# Altium schematic symbol library node.SchLib: 51 symbols (part 1 of 2)
Pins are listed as number, name and electrical type; pins without a type are passive.

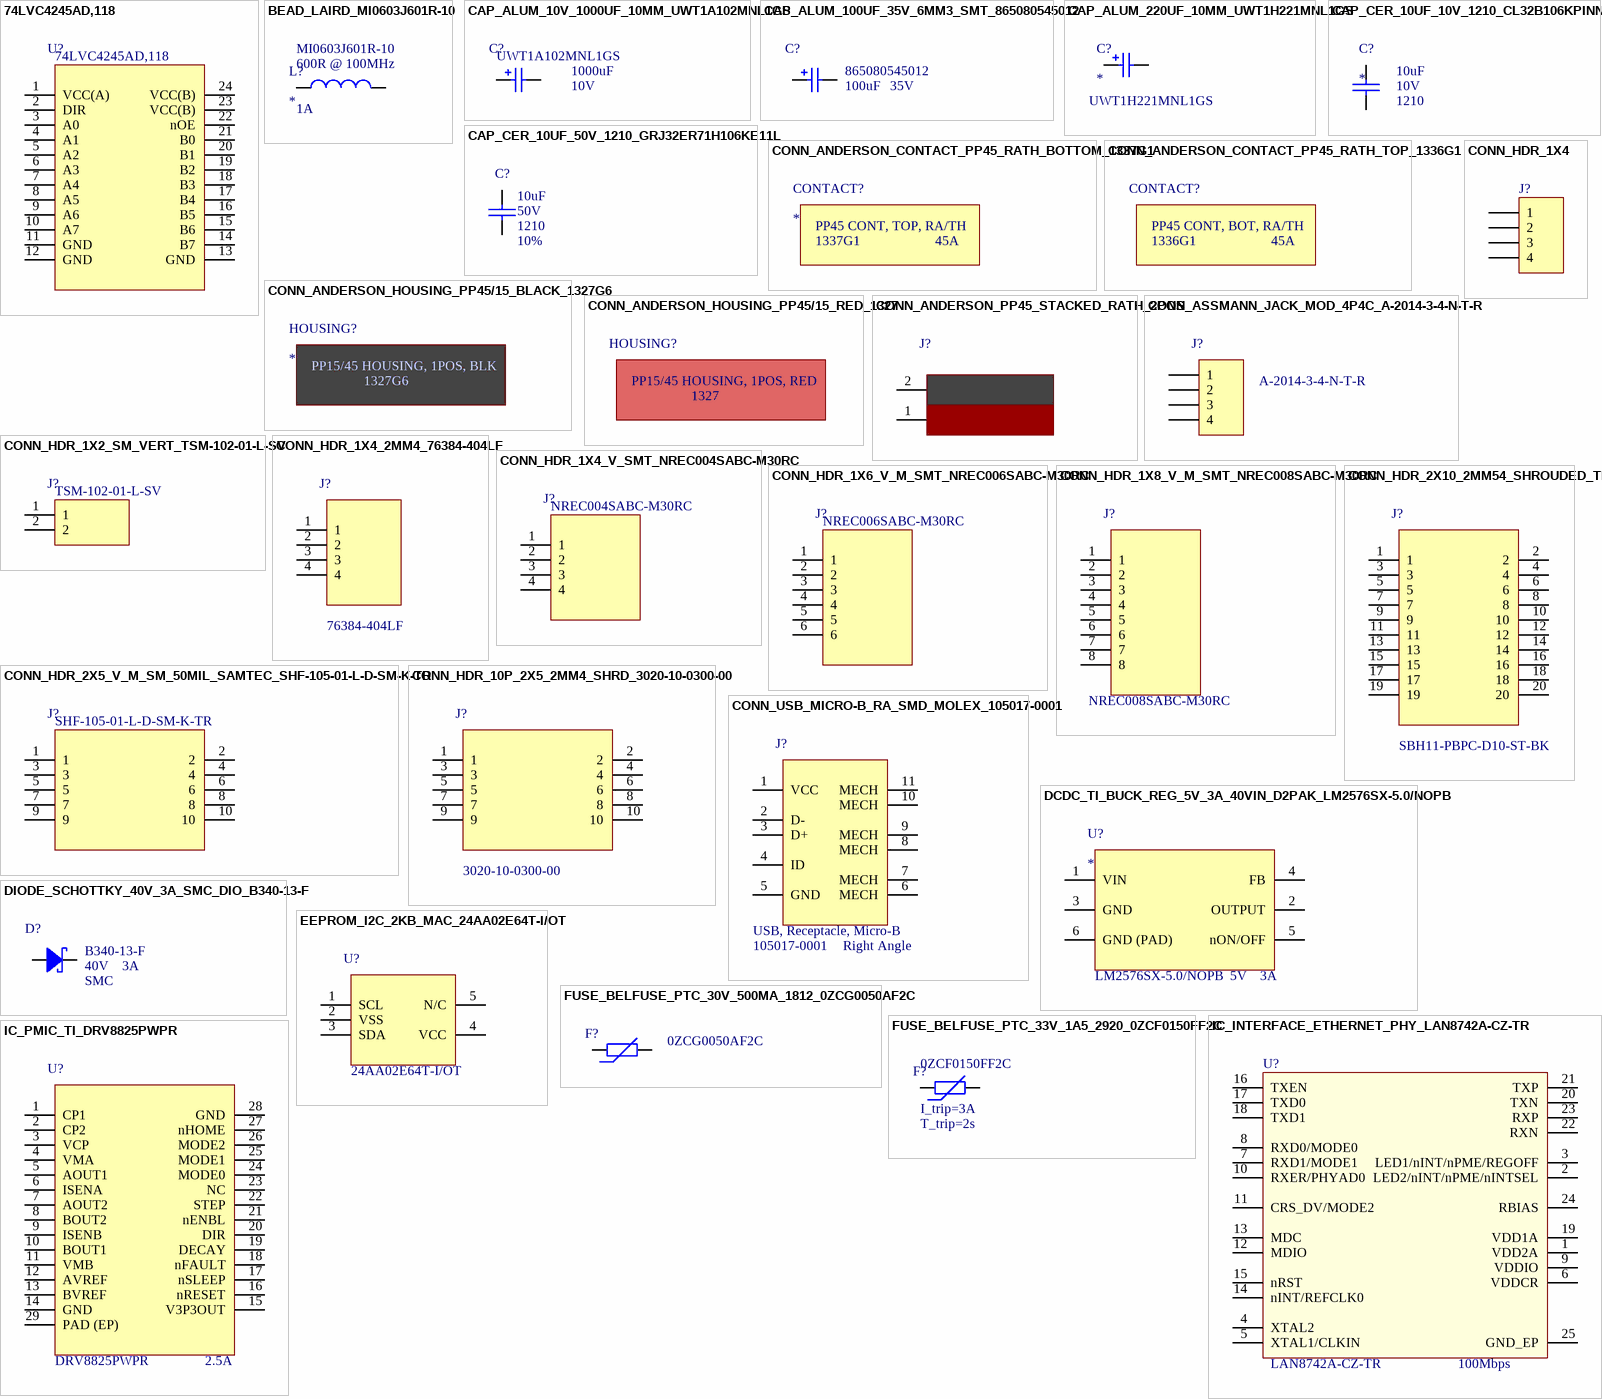
[diagram p0: symbols 74LVC4245AD,118 to IC_PMIC_TI_DRV8825PWPR]

## 74LVC4245AD,118
designator U?  Manufacturer Part Number: 74LVC4245AD,118  (hidden comment: *)
IC TRANSCVR TRI-ST DL 24SOIC; Manufacturer: NXP Semiconductors; Number of Channels: 8; Propagation Delay: 8ns; Min Supply Voltage: 1.5V; Max Supply Voltage: 5.5V; Number of Elements: 1; Direction: Bidirectional; Logic Function: Transceiver,Translator; Low Level Output Current: 24mA; Turn-On Delay Time: 3.6ns; Polarity: Non-Inverting; High Level Output Current: -24mA; Quiescent Current: 100nA; Output Type: TTL; Supplier 1: Digi-Key; Stock 1: 3472; Pricing 1: 1=0.63, 10=0.558, 100=0.4277, 500=0.3381 (USD); Mount: Surface Mount; Case/Package: SO; Number of Pins: 24; Contact Plating: Gold; Min Operating Temperature: -40°C; Max Operating Temperature: 125°C; Package Quantity: 1000; Packaging: Tape and Reel; Number of Bits: 8; Number of Circuits: 1; Radiation Hardening: No; REACH SVHC: No SVHC; Lead Free: Lead Free; ComponentLink1URL: https://datasheet.ciiva.com/1899/74lvc4245a-1899059.pdf; ComponentLink1Description: https://datasheet.ciiva.com/1899/74lvc4245a-1899059.pdf; ComponentLink2URL: https://datasheet.ciiva.com/1899/74lvc4245a-1899060.pdf; ComponentLink2Description: https://datasheet.ciiva.com/1899/74lvc4245a-1899060.pdf; ComponentLink3URL: https://datasheet.ciiva.com/1899/74lvc4245a-1899061.pdf; ComponentLink3Description: https://datasheet.ciiva.com/1899/74lvc4245a-1899061.pdf; ComponentLink4URL: https://datasheet.ciiva.com/8260/74lvc4245a-8260005.pdf; ComponentLink4Description: https://datasheet.ciiva.com/8260/74lvc4245a-8260005.pdf; ComponentLink5URL: https://datasheet.ciiva.com/16591/74lvc4245a-16591349.pdf; ComponentLink5Description: https://datasheet.ciiva.com/16591/74lvc4245a-16591349.pdf; ComponentLink6URL: https://datasheet.ciiva.com/46434/1714648-46434213.pdf; ComponentLink6Description: https://datasheet.ciiva.com/46434/1714648-46434213.pdf; ComponentLink7URL: https://datasheet.ciiva.com/1899/74lvc4245a-1899063.pdf; ComponentLink7Description: https://datasheet.ciiva.com/1899/74lvc4245a-1899063.pdf; Supplier Part Number 1: 1727-6369-6-ND
footprint IC_TSSOP-24 (TSOP, 24-Leads, Body 7.80x4.40mm, Pitch 0.65mm, IPC Medium Density)
pins: 1 VCC(A), 2 DIR, 3 A0, 4 A1, 5 A2, 6 A3, 7 A4, 8 A5, 9 A6, 10 A7, 11 GND, 12 GND, 13 GND, 14 B7, 15 B6, 16 B5, 17 B4, 18 B3, 19 B2, 20 B1, 21 B0, 22 nOE, 23 VCC(B), 24 VCC(B)

## BEAD_LAIRD_MI0603J601R-10
designator L?  Manufacturer Part Number: MI0603J601R-10  Max DC Current: 1A  Impedance: 600R @ 100MHz
FERRITE BEAD 600 OHM 0603; Manufacturer: Laird; Number of Lines: 1; DC Resistance (DCR): 200mR; Test Frequency: 100MHz; Supplier 1: Digi-Key; Stock 1: 1193128; Pricing 1: 1=0.18, 10=0.148, 25=0.1152, 50=0.0952, 100=0.0822, 250=0.06572, 500=0.05914, 1000=0.04929 (USD); Mount: Surface Mount; Case/Package: 0603; Weight: 0.002oz; Case Code (Metric): 1608; Case Code (Imperial): 0603; Contact Plating: Tin,Matte; Core Material: Ferrite; Material: Ferrite; Min Operating Temperature: -40°C; Max Operating Temperature: 125°C; Packaging: Tape and Reel; Package Quantity: 1; Max Current Rating: 1A; Termination: SMD/SMT; Frequency: 100MHz; Current Rating: 1A; Length: 1.6mm; Height: 0.8mm; Width: 0.031inch; Depth: 0.8mm; Lead Free: Lead Free; REACH SVHC: Unknown; ComponentLink1URL: https://datasheet.ciiva.com/3082/mi0603j601r-10-a2-vp-3082208.pdf; ComponentLink1Description: https://datasheet.ciiva.com/3082/mi0603j601r-10-a2-vp-3082208.pdf; ComponentLink2URL: https://datasheet.ciiva.com/22650/1685984-22650402.pdf; ComponentLink2Description: https://datasheet.ciiva.com/22650/1685984-22650402.pdf; ComponentLink3URL: https://datasheet.ciiva.com/1013/mi0603j601r-10-1013257.pdf; ComponentLink3Description: https://datasheet.ciiva.com/1013/mi0603j601r-10-1013257.pdf; Supplier Part Number 1: 240-2371-6-ND
footprint 0603L (Bead 0603L)
pins: 1, 2

## CAP_ALUM_10V_1000UF_10MM_UWT1A102MNL1GS
designator C?  Manufacturer Part Number: UWT1A102MNL1GS  Voltage: 10V  Capacitance: 1000uF  (hidden comment: *)
CAP ALUM 1000UF 20% 10V SMD; Manufacturer: Nichicon; Dielectric Material: Aluminium; Ripple Current: 310mA; Leakage Current: 100uA; Life (Hours): 1000Hour; Lead Diameter: 1.1mm; Supplier 1: Digi-Key; Stock 1: 21953; Pricing 1: 1=0.66, 10=0.469, 100=0.3091 (USD); Mount: Surface Mount,PCB; Case/Package: Radial; Number of Pins: 2; Contact Plating: Tin; Min Operating Temperature: -55°C; Max Operating Temperature: 105°C; Tolerance: 20%; Packaging: Tape and Reel; Package Quantity: 500; Voltage Rating: 10V; Ripple Current (AC): 310mA; Voltage Rating (DC): 10V; Termination: SMD/SMT; Diameter: 10mm; Length: 10mm; Height: 10mm; Lead Pitch: 4.5mm; Height - Seated (Max): 0.394inch; Radiation Hardening: No; REACH SVHC: No SVHC; Lead Free: Lead Free; ComponentLink1URL: https://datasheet.ciiva.com/97/e-wt-97505.pdf; ComponentLink1Description: https://datasheet.ciiva.com/97/e-wt-97505.pdf; ComponentLink2URL: https://datasheet.ciiva.com/30522/getdatasheetpartid-388152-30522193.pdf; ComponentLink2Description: https://datasheet.ciiva.com/30522/getdatasheetpartid-388152-30522193.pdf; ComponentLink3URL: https://datasheet.ciiva.com/97/e-wt-97506.pdf; ComponentLink3Description: https://datasheet.ciiva.com/97/e-wt-97506.pdf; ComponentLink4URL: https://datasheet.ciiva.com/97/e-wt-97507.pdf; ComponentLink4Description: https://datasheet.ciiva.com/97/e-wt-97507.pdf; ComponentLink5URL: https://datasheet.ciiva.com/11776/0900766b80fa3a91-11776933.pdf; ComponentLink5Description: https://datasheet.ciiva.com/11776/0900766b80fa3a91-11776933.pdf; ComponentLink6URL: https://datasheet.ciiva.com/7793/e-wt-7793502.pdf; ComponentLink6Description: https://datasheet.ciiva.com/7793/e-wt-7793502.pdf; ComponentLink7URL: https://datasheet.ciiva.com/46384/1910938-46384607.pdf; ComponentLink7Description: https://datasheet.ciiva.com/46384/1910938-46384607.pdf; Supplier Part Number 1: 493-2171-6-ND
footprint CAPAE_D10_BH10MM3 (Aluminum Electrolytic Capacitor, Body 10.30x10.30x10.30mm, IPC Low Density)
pins: 1, 2

## CAP_ALUM_100UF_35V_6MM3_SMT_865080545012
designator C?  Manufacturer Part Number: 865080545012  Voltage Rating (DC): 35V  Capacitance: 100uF  (hidden comment: *)
WURTH ELEKTRONIK         865080545012             SMD Aluminium Electrolytic Capacitor, Radial Can - SMD, 100 F, 35 V, WCAP-ASLI Series; Manufacturer: Wurth Electronics; Life (Hours): 2000Hour; Ripple Current (AC): 300mA; Supplier 1: Digi-Key; Stock 1: 5637; Pricing 1: 1=0.33, 50=0.278, 100=0.242, 250=0.215 (USD); Case/Package: Radial; Min Operating Temperature: -55°C; Max Operating Temperature: 105°C; Voltage Rating: 35V; Packaging: Cut Tape; Diameter: 6.3mm; Height: 7.7mm; REACH SVHC: Unknown; ComponentLink1URL: http://www.farnell.com/datasheets/1880164.pdf; ComponentLink1Description: http://www.farnell.com/datasheets/1880164.pdf; ComponentLink2URL: http://katalog.we-online.de/pbs/datasheet/865080545012.pdf; ComponentLink2Description: http://katalog.we-online.de/pbs/datasheet/865080545012.pdf; Supplier Part Number 1: 732-8511-6-ND
footprint CAPAE_D6MM3 (Aluminum Electrolytic Capacitor, Body 6.50x6.50x7.70mm, IPC Medium Density)
pins: 1, 2

## CAP_ALUM_220UF_10MM_UWT1H221MNL1GS
designator C?  Manufacturer Part Number: UWT1H221MNL1GS
CAP ALUM 220UF 20% 50V SMD; Manufacturer: Nichicon; Dielectric Material: Aluminium; Ripple Current: 220mA; Leakage Current: 3uA; Life (Hours): 1000Hour; Dissipation Factor: 0.14%; Supplier 1: Digi-Key; Stock 1: 57237; Pricing 1: 1=0.66, 10=0.464, 100=0.3058 (USD); Mount: Surface Mount; Case/Package: SMD/SMT; Number of Pins: 2; Temperature: -55~105C; Capacitance: 220uF; Tolerance: 20%; Package Quantity: 500; Voltage Rating: 50V; Voltage Rating (DC): 50V; Packaging: Tape and Reel; Ripple Current (AC): 220mA; Termination: SMD/SMT; Voltage: 50V; Diameter: 10mm; Length: 10mm; Height: 10mm; Height - Seated (Max): 0.394inch; Lead Pitch: 4.5mm; Radiation Hardening: No; REACH SVHC: No SVHC; Lead Free: Lead Free; ComponentLink1URL: https://datasheet.ciiva.com/7781/e-wt-7781462.pdf; ComponentLink1Description: https://datasheet.ciiva.com/7781/e-wt-7781462.pdf; ComponentLink2URL: https://datasheet.ciiva.com/11686/e-wt-11686311.pdf; ComponentLink2Description: https://datasheet.ciiva.com/11686/e-wt-11686311.pdf; ComponentLink3URL: https://datasheet.ciiva.com/97/e-wt-97496.pdf; ComponentLink3Description: https://datasheet.ciiva.com/97/e-wt-97496.pdf; ComponentLink4URL: https://datasheet.ciiva.com/97/e-wt-97497.pdf; ComponentLink4Description: https://datasheet.ciiva.com/97/e-wt-97497.pdf; ComponentLink5URL: https://datasheet.ciiva.com/97/e-wt-97498.pdf; ComponentLink5Description: https://datasheet.ciiva.com/97/e-wt-97498.pdf; ComponentLink6URL: https://datasheet.ciiva.com/28458/1910938-28458474.pdf; ComponentLink6Description: https://datasheet.ciiva.com/28458/1910938-28458474.pdf; ComponentLink7URL: https://datasheet.ciiva.com/17526/e-wt-17526124.pdf; ComponentLink7Description: https://datasheet.ciiva.com/17526/e-wt-17526124.pdf; ComponentLink8URL: https://datasheet.ciiva.com/16502/e-wt-16502942.pdf; ComponentLink8Description: https://datasheet.ciiva.com/16502/e-wt-16502942.pdf; Supplier Part Number 1: 493-2228-6-ND
footprint CAPAE_D10_BH10MM3 (Aluminum Electrolytic Capacitor, Body 10.30x10.30x10.30mm, IPC Low Density)
pins: 1, 2

## CAP_CER_10UF_10V_1210_CL32B106KPINNNE
designator C?  Capacitance: 10uF  Case/Package: 1210  Voltage Rating: 10V
Cap Ceramic 10uF 10V X7R 10% SMD 1210 125C Embossed T/R; Manufacturer: Samsung; Manufacturer Part Number: CL32B106KPINNNE; Supplier 1: Digi-Key; Stock 1: 13080; Pricing 1: 1=0.36, 10=0.252, 100=0.1509, 500=0.1132, 1000=0.09559 (USD); Mount: Surface Mount; Case Code (Metric): 3225; Case Code (Imperial): 1210; Min Operating Temperature: -55°C; Max Operating Temperature: 125°C; Tolerance: 10%; Dielectric: X7R; Package Quantity: 2000; Packaging: Tape and Reel; Voltage Rating (DC): 10V; Length: 3.2mm; Height: 2mm; Depth: 2.5mm; Width: 0.098inch; Thickness: 0.087inch; Radiation Hardening: No; Lead Free: Lead Free; ComponentLink1URL: https://datasheet.ciiva.com/25792/cl32b106kpinnne-25792065.pdf; ComponentLink1Description: https://datasheet.ciiva.com/25792/cl32b106kpinnne-25792065.pdf; ComponentLink2URL: https://datasheet.ciiva.com/16437/cl05b104kq5nnnc-16437173.pdf; ComponentLink2Description: https://datasheet.ciiva.com/16437/cl05b104kq5nnnc-16437173.pdf; Supplier Part Number 1: 1276-3326-6-ND
footprint 1210C (Chip Capacitor, Body 3.2x1.6mm, Height 1mm, IPC Medium Density)
pins: 1, 2

## CAP_CER_10UF_50V_1210_GRJ32ER71H106KE11L
designator C?  Tolerance: 10%  Voltage Rating: 50V  Capacitance: 10uF  Case/Package: 1210  (hidden comment: *)
10µF 50V Ceramic Capacitor X7R 1210 (3225 Metric) 0.126" L x 0.098" W (3.20mm x 2.50mm); Manufacturer: Murata; Manufacturer Part Number: GRJ32ER71H106KE11L; Supplier 1: Digi-Key; Stock 1: 10000; Pricing 1: 1=1.03, 10=0.785, 100=0.5615, 500=0.4347 (USD); Mount: Surface Mount; Case Code (Metric): 3225; Case Code (Imperial): 1210; Min Operating Temperature: -55°C; Max Operating Temperature: 125°C; Packaging: Tape and Reel; Length: 0.126inch; Width: 0.098inch; Thickness: 0.11inch; ComponentLink1URL: http://search.murata.co.jp/Ceramy/image/img/A01X/partnumbering_e_01.pdf; ComponentLink1Description: http://search.murata.co.jp/Ceramy/image/img/A01X/partnumbering_e_01.pdf; ComponentLink2URL: https://www.murata.com/~/media/webrenewal/support/library/catalog/products/k70e.ashx; ComponentLink2Description: https://www.murata.com/~/media/webrenewal/support/library/catalog/products/k70e.ashx; Supplier Part Number 1: 490-10961-1-ND
footprint CAP1210
pins: 1, 2

## CONN_ANDERSON_CONTACT_PP45_RATH_BOTTOM_1337G1
designator CONTACT?  Current Rating: 45A  Manufacturer Part Number: 1337G1  Parameter 1: PP45 CONT, TOP, RA/TH
Heavy Duty Power Connectors PCB45 HORIZ (TOP) RA LP CONT.; Manufacturer: Anderson Power; Voltage Rating: 250V; Gender: Female; Supplier 1: Mouser; Stock 1: 13219; Pricing 1: 1=0.58, 10=0.58, 50=0.467, 100=0.43, 1000=0.38, 10000=0.38 (USD); Mount: Through Hole; Contact Material: Copper,Copper Alloy; Contact Plating: Tin; Termination: Through Hole; REACH SVHC: No SVHC; ComponentLink1URL: https://datasheet.ciiva.com/18408/70162076-18408970.pdf; ComponentLink1Description: https://datasheet.ciiva.com/18408/70162076-18408970.pdf; Supplier Part Number 1: 879-1337G1

## CONN_ANDERSON_CONTACT_PP45_RATH_TOP_1336G1
designator CONTACT?  Parameter 1: PP45 CONT, BOT, RA/TH  Current Rating: 45A  Manufacturer Part Number: 1336G1  (hidden comment: *)
Heavy Duty Power Connectors PCB45 HORIZ. (BOT) RA LP CONT.; Manufacturer: Anderson Power; Voltage Rating: 250V; Gender: Female; Supplier 1: Mouser; Stock 1: 32882; Pricing 1: 1=0.57, 10=0.57, 50=0.501, 100=0.448, 1000=0.373, 10000=0.373 (USD); Mount: Through Hole; Contact Material: Copper,Copper Alloy; Contact Plating: Tin; Termination: Through Hole; REACH SVHC: No SVHC; ComponentLink1URL: https://datasheet.ciiva.com/18408/70162076-18408966.pdf; ComponentLink1Description: https://datasheet.ciiva.com/18408/70162076-18408966.pdf; Supplier Part Number 1: 879-1336G1

## CONN_ANDERSON_HOUSING_PP45/15_BLACK_1327G6
designator HOUSING?  Manufacturer Part Number: 1327G6  Parameter 1: PP15/45 HOUSING, 1POS, BLK
Heavy Duty Power Connectors PP15/45 HOUSING ONLY BLACK; Manufacturer: Anderson Power; Voltage Rating: 600V; Number of Contacts: 1; Gender: Male; Current Rating: 15A; Voltage Rating (DC): 45V; Connector Type: Plug,Socket; Wire Gauge (Max): 20AWG; Wire Gauge (Min): 16AWG; Supplier 1: Mouser; Stock 1: 41587; Pricing 1: 1=0.46, 10=0.46, 50=0.395, 100=0.341, 1000=0.299, 10000=0.299 (USD); Mount: Panel; Housing Colour: Black; Colour: Black; Housing Material: Polycarbonate; Contact Plating: Tin,Silver,Matte; Min Operating Temperature: -20°C; Max Operating Temperature: 105°C; Number of Rows: 1; Orientation: Straight; Number of Positions: 1; Length: 7.9mm; Depth: 24.6mm; Flammability Rating: UL94 V-0; REACH SVHC: No SVHC; ComponentLink1URL: https://datasheet.ciiva.com/7630/90775-7630279.pdf; ComponentLink1Description: https://datasheet.ciiva.com/7630/90775-7630279.pdf; ComponentLink2URL: https://datasheet.ciiva.com/11726/0900766b811db648-11726635.pdf; ComponentLink2Description: https://datasheet.ciiva.com/11726/0900766b811db648-11726635.pdf; ComponentLink3URL: https://datasheet.ciiva.com/14616/70237089-14616588.pdf; ComponentLink3Description: https://datasheet.ciiva.com/14616/70237089-14616588.pdf; ComponentLink4URL: https://datasheet.ciiva.com/14154/04211009-14154461.pdf; ComponentLink4Description: https://datasheet.ciiva.com/14154/04211009-14154461.pdf; Supplier Part Number 1: 879-1327G6

## CONN_ANDERSON_HOUSING_PP45/15_RED_1327
designator HOUSING?  Manufacturer Part Number: 1327  Parameter 1: PP15/45 HOUSING, 1POS, RED  (hidden comment: *)
CONNECTOR HOUSING, 1POS, RED; Manufacturer: Anderson Power; Voltage Rating: 600V; Number of Contacts: 1; Gender: Receptacle; Current Rating: 15A; Voltage Rating (DC): 45V; Wire Gauge (Max): 20AWG; Wire Gauge (Min): 16AWG; Supplier 1: Mouser; Stock 1: 50357; Pricing 1: 1=0.43, 10=0.43, 50=0.384, 100=0.331, 1000=0.289, 10000=0.289 (USD); Mount: Panel; Housing Colour: Red; Colour: Red; Housing Material: Polycarbonate; Min Operating Temperature: -20°C; Max Operating Temperature: 105°C; Number of Rows: 1; Orientation: Straight; Length: 7.9mm; Depth: 24.6mm; Flammability Rating: UL94 V-0; REACH SVHC: No SVHC; ComponentLink1URL: https://datasheet.ciiva.com/1114/1682359-1114016.pdf; ComponentLink1Description: https://datasheet.ciiva.com/1114/1682359-1114016.pdf; ComponentLink2URL: https://datasheet.ciiva.com/11726/0900766b811db648-11726624.pdf; ComponentLink2Description: https://datasheet.ciiva.com/11726/0900766b811db648-11726624.pdf; ComponentLink3URL: https://datasheet.ciiva.com/14616/70162007-14616653.pdf; ComponentLink3Description: https://datasheet.ciiva.com/14616/70162007-14616653.pdf; ComponentLink4URL: https://datasheet.ciiva.com/26927/getdatasheetpartid-423519-26927565.pdf; ComponentLink4Description: https://datasheet.ciiva.com/26927/getdatasheetpartid-423519-26927565.pdf; ComponentLink5URL: https://datasheet.ciiva.com/14154/04211009-14154462.pdf; ComponentLink5Description: https://datasheet.ciiva.com/14154/04211009-14154462.pdf; Supplier Part Number 1: 879-1327

## CONN_ANDERSON_PP45_STACKED_RATH_2POS
designator J?  (value not drawn)
Placeholder for component assembled from other components on BOM. Powerpole PP15/45, Stacked, 2 position. Assemble red housing in the 'bottom' position (short contact); Manufacturer Part Number: Placeholder part: See Description
footprint CONN_ANDERSON_POWERPOLE_45_HOUSING_STACKED_RATH
pins: 1, 2

## CONN_ASSMANN_JACK_MOD_4P4C_A-2014-3-4-N-T-R
designator J?  Manufacturer Part Number: A-2014-3-4-N-T-R  (hidden comment: *)
CONN MOD JACK 4P4C VERT; Manufacturer: Assmann; Shielding: Unshielded; Max Current Rating: 1.5A; Contact Resistance: 20mR; Number of Ports: 1; Number of Positions Loaded: 4; Max Voltage Rating (AC): 120V; Direction: User Selectable; Pitch: 2.54mm; Supplier 1: Digi-Key; Stock 1: 29088; Pricing 1: 1=0.55, 10=0.516, 25=0.4644, 50=0.4128, 100=0.3956, 250=0.3612, 500=0.344, 1000=0.2838, 2500=0.258 (USD); Mount: Through Hole; Contact Material: Bronze; Contact Plating: Nickel,Gold; Housing Colour: Black; Housing Material: Glass; Min Operating Temperature: -40°C; Max Operating Temperature: 85°C; Package Quantity: 130; Number of Rows: 1; Packaging: Tray; Termination: Solder; Orientation: Vertical; Connector Type: Jack; Length: 11.43mm; Depth: 16.5mm; Lead Free: Lead Free; ComponentLink1URL: http://components.arrow.com/part/dataview/0323_07027207; ComponentLink1Description: http://components.arrow.com/part/dataview/0323_07027207; ComponentLink2URL: http://www.assmann-wsw.com/fileadmin/datasheets/ASS_7331_CO.PDF; ComponentLink2Description: http://www.assmann-wsw.com/fileadmin/datasheets/ASS_7331_CO.PDF; ComponentLink3URL: http://www.assmann.us/specs/A-2014-3-4-N-T-R.pdf; ComponentLink3Description: http://www.assmann.us/specs/A-2014-3-4-N-T-R.pdf; Supplier Part Number 1: AE10393-ND
footprint CON_JACK_MOD_4P4C_ASSMANN_A-2014-3-4-N-T-R
pins: 1, 2, 3, 4

## CONN_HDR_1X2_SM_VERT_TSM-102-01-L-SV
designator J?  Manufacturer Part Number: TSM-102-01-L-SV  (hidden comment: *)
Conn Unshrouded Header HDR 2 POS 2.54mm Solder ST SMD Automotive Bulk; Manufacturer: Samtec; Number of Contacts: 2; Gender: Male; Max Current Rating: 7A; Voltage Rating: 475V; Connector Type: Male Pin; Supplier 1: Digi-Key; Stock 1: 9436; Pricing 1: 1=0.34, 10=0.326, 100=0.2279, 500=0.1953, 1000=0.16275, 5000=0.1395, 10000=0.1302 (USD); Mount: Surface Mount; Contact Plating: Gold; Contact Material: Bronze; Colour: Black; Housing Colour: Black; Housing Material: Polymer; Min Operating Temperature: -55°C; Max Operating Temperature: 125°C; Number of Rows: 1; Packaging: Bulk; Current Rating: 7A; Package Quantity: 1; Number of Positions: 2; Termination: Solder; Max Voltage Rating (AC): 475V; Orientation: Straight; Length: 5.08mm; Pitch: 2.54mm; Contact Mating Length: 0.23inch; Depth: 2.54mm; Radiation Hardening: No; REACH SVHC: No SVHC; Lead Free: Lead Free; ComponentLink1URL: https://datasheet.ciiva.com/25618/0900766b81157e6c-25618474.pdf; ComponentLink1Description: https://datasheet.ciiva.com/25618/0900766b81157e6c-25618474.pdf; ComponentLink2URL: https://datasheet.ciiva.com/739/tsm-1xx-xx-xxx-sv-xx-xxx-xx-mkt-739550.pdf; ComponentLink2Description: https://datasheet.ciiva.com/739/tsm-1xx-xx-xxx-sv-xx-xxx-xx-mkt-739550.pdf; Supplier Part Number 1: SAM8979-ND
footprint CONN_SAMTEC_HDR_2POS_V_SM_TSM-102-01-L-SV
pins: 1, 2

## CONN_HDR_1X4
designator J?  (value not drawn)
Header, 4-Pin, Single row; Revision: 17-Jul-2002: Re-released for DXP Platform.; Parameter 1: *
signal-integrity model Connector
footprint 1*4 (Footprint not found)
footprint HDR_1x4_2R54_V_M (Footprint not found)
pins: 1, 2, 3, 4

## CONN_HDR_1X4_2MM4_76384-404LF
designator J?  Manufacturer Part Number: 76384-404LF  (hidden comment: *)
Header, 1x4, 0.1" Pitch, Unshrouded; Manufacturer: Amphenol FCI; Number of Contacts: 4; Current Rating: 3A; Voltage Rating: 1kV; Connector Type: Male Pin; Gender: Male; Pitch: 2.54mm; Mating Post Length: 5mm; Supplier 1: Digi-Key; Stock 1: 1255; Pricing 1: 1=0.65, 10=0.611, 100=0.4687, 500=0.4076, 1000=0.33627, 5000=0.29551, 10000=0.27513 (USD); Mount: Through Hole; Contact Plating: Nickel,Tin,Gold; Colour: Black; Contact Material: Bronze,Copper Alloy; Housing Colour: Black; Housing Material: Thermoplastic; Min Operating Temperature: -40°C; Max Operating Temperature: 125°C; Number of Rows: 1; Termination: Solder; Package Quantity: 500; Packaging: Bulk; Number of Positions: 4; Max Voltage Rating (AC): 1kV; Orientation: Straight; Fastening Type: Friction; Length: 9.16mm; Contact Mating Length: 0.197inch; Termination Post Length: 3.4mm; Width: 4.7mm; Depth: 5mm; Radiation Hardening: No; Lead Free: Lead Free; ComponentLink1URL: https://datasheet.ciiva.com/713/76384-713329.pdf; ComponentLink1Description: https://datasheet.ciiva.com/713/76384-713329.pdf; ComponentLink2URL: https://datasheet.ciiva.com/16689/76384-16689063.pdf; ComponentLink2Description: https://datasheet.ciiva.com/16689/76384-16689063.pdf; ComponentLink3URL: https://datasheet.ciiva.com/9473/76384-9473260.pdf; ComponentLink3Description: https://datasheet.ciiva.com/9473/76384-9473260.pdf; Supplier Part Number 1: 609-1319-ND
footprint HDR_1x4_2R54_V_M (Male Header, Pitch 2.54mm, 4x1 Position, Mated Height 6mm, Tail Length 3mm)
pins: 1, 2, 3, 4

## CONN_HDR_1X4_V_SMT_NREC004SABC-M30RC
designator J?  Manufacturer Part Number: NREC004SABC-M30RC  (hidden comment: *)
CONN HEADER .100" SNGL SMD 4POS; Manufacturer: Sullins; Number of Positions: 4; Connector Type: Male Pin; Pitch: 0.1inch; Supplier 1: Digi-Key; Stock 1: 875; Pricing 1: 1=0.27, 10=0.24, 100=0.1978, 500=0.15636, 1000=0.13422, 5000=0.12245, 10000=0.11774 (USD); Mount: Surface Mount; Colour: Black; Contact Plating: Tin; Package Quantity: 1; Number of Rows: 1; Packaging: Bulk; Termination: Solder; Contact Mating Length: 0.23inch; ComponentLink1URL: https://datasheet.ciiva.com/741/xrxczzzszzz-m30rc-11657-b-741121.pdf; ComponentLink1Description: https://datasheet.ciiva.com/741/xrxczzzszzz-m30rc-11657-b-741121.pdf; Supplier Part Number 1: S1013EC-04-ND
footprint HDR_1X4_2R54_V_M_SMT
pins: 1, 2, 3, 4

## CONN_HDR_1X6_V_M_SMT_NREC006SABC-M30RC
designator J?  Manufacturer Part Number: NREC006SABC-M30RC  (hidden comment: *)
6 Positions Header, Unshrouded Connector 0.100" (2.54mm) Surface Mount Tin; Manufacturer: Sullins; Number of Positions: 6; Connector Type: Male Pin; Pitch: 0.1inch; Supplier 1: Digi-Key; Stock 1: 883; Pricing 1: 1=0.31, 10=0.281, 100=0.2315, 500=0.18302, 1000=0.15711, 5000=0.14333, 10000=0.13781 (USD); Mount: Surface Mount; Colour: Black; Contact Plating: Tin; Package Quantity: 1; Number of Rows: 1; Packaging: Bulk; Termination: Solder; Contact Mating Length: 0.23inch; ComponentLink1URL: https://datasheet.ciiva.com/741/xrxczzzszzz-m30rc-11657-b-741119.pdf; ComponentLink1Description: https://datasheet.ciiva.com/741/xrxczzzszzz-m30rc-11657-b-741119.pdf; Supplier Part Number 1: S1013EC-06-ND
footprint HDR_1X6_2R54_V_M_SMT
pins: 1, 2, 3, 4, 5, 6

## CONN_HDR_1X8_V_M_SMT_NREC008SABC-M30RC
designator J?  Manufacturer Part Number: NREC008SABC-M30RC  (hidden comment: *)
8 Positions Header, Unshrouded Connector 0.100" (2.54mm) Surface Mount Tin; Manufacturer: Sullins; Number of Positions: 8; Connector Type: Male Pin; Pitch: 0.1inch; Supplier 1: Digi-Key; Stock 1: 1243; Pricing 1: 1=0.36, 10=0.322, 100=0.2653, 500=0.20968, 1000=0.17999, 5000=0.1642, 10000=0.15789 (USD); Mount: Surface Mount; Colour: Black; Contact Plating: Tin; Package Quantity: 1; Number of Rows: 1; Packaging: Bulk; Termination: Solder; Contact Mating Length: 0.23inch; ComponentLink1URL: https://datasheet.ciiva.com/741/xrxczzzszzz-m30rc-11657-b-741117.pdf; ComponentLink1Description: https://datasheet.ciiva.com/741/xrxczzzszzz-m30rc-11657-b-741117.pdf; Supplier Part Number 1: S1013EC-08-ND
footprint HDR_1X8_2R54_V_M_SMT
pins: 1, 2, 3, 4, 5, 6, 7, 8

## CONN_HDR_2X5_V_M_SM_50MIL_SAMTEC_SHF-105-01-L-D-SM-K-TR
designator J?  Manufacturer Part Number: SHF-105-01-L-D-SM-K-TR  (hidden comment: *)
Conn Shrouded Header HDR 10 POS 1.27mm Solder ST SMD T/R; Manufacturer: Samtec; Number of Contacts: 10; Gender: Male; Supplier 1: Digi-Key; Stock 1: 106; Pricing 1: 1=3.66, 10=3.511, 100=2.926 (USD); Contact Plating: Nickel,Gold; Contact Material: Bronze; Housing Colour: Black; Housing Material: Polymer; Min Operating Temperature: -55°C; Max Operating Temperature: 125°C; Number of Rows: 2; Packaging: Tape and Reel; Termination: Solder; Orientation: Straight; Length: 12.7mm; Pitch: 1.27mm; Depth: 5.59mm; Radiation Hardening: No; REACH SVHC: No SVHC; ComponentLink1URL: https://datasheet.ciiva.com/16710/eshf-16710342.pdf; ComponentLink1Description: https://datasheet.ciiva.com/16710/eshf-16710342.pdf; ComponentLink2URL: https://datasheet.ciiva.com/10244/eshf-10244043.pdf; ComponentLink2Description: https://datasheet.ciiva.com/10244/eshf-10244043.pdf; ComponentLink3URL: https://datasheet.ciiva.com/25574/1788271-25574734.pdf; ComponentLink3Description: https://datasheet.ciiva.com/25574/1788271-25574734.pdf; Supplier Part Number 1: SAM13249CT-ND
footprint CONN_SAMTEC_HDR_50MIL_10POS_SHRD_SM_SHF-105-01-L-D-SM
pins: 1, 2, 3, 4, 5, 6, 7, 8, 9, 10

## CONN_HDR_2X10_2MM54_SHROUDED_TH
designator J?  Manufacturer Part Number: SBH11-PBPC-D10-ST-BK  (hidden comment: *)
CONN HEADER 2.54MM 20POS; Manufacturer: Sullins; Number of Positions: 20; Connector Type: Male Pin; Pitch: 0.1inch; Supplier 1: Digi-Key; Stock 1: 20047; Pricing 1: 1=0.54, 10=0.51, 100=0.3912, 500=0.3402, 1000=0.28067, 5000=0.24665, 10000=0.2457 (USD); Colour: Black; Contact Plating: Gold; Package Quantity: 1; Number of Rows: 2; Packaging: Tray; Termination: Solder; Row Spacing: 0.1inch; Lead Free: Lead Free; ComponentLink1URL: https://datasheet.ciiva.com/730/sbh11-pbpc-dxx-st-xx-730919.pdf; ComponentLink1Description: https://datasheet.ciiva.com/730/sbh11-pbpc-dxx-st-xx-730919.pdf; Supplier Part Number 1: S9172-ND; Mount: Through Hole
footprint HDR_10X2_2R54
pins: 1, 2, 3, 4, 5, 6, 7, 8, 9, 10, 11, 12, 13, 14, 15, 16, 17, 18, 19, 20

## CONN_HDR_10P_2X5_2MM4_SHRD_3020-10-0300-00
designator J?  Manufacturer Part Number: 3020-10-0300-00  (hidden comment: *)
IDC BOX HEADER .100" 10POS; Manufacturer: CNC Tech; Number of Positions: 10; Connector Type: Male Pin; Pitch: 0.1inch; Supplier 1: Digi-Key; Stock 1: 39673; Pricing 1: 1=0.48, 10=0.45, 100=0.345, 500=0.3, 1000=0.2475, 5000=0.2175, 10000=0.2025 (USD); Mount: Surface Mount; Contact Plating: Gold; Package Quantity: 1560; Packaging: Tray; Number of Rows: 2; Termination: Solder; Row Spacing: 0.1inch; ComponentLink1URL: https://datasheet.ciiva.com/6904/3020-34-0300-00-6904731.pdf; ComponentLink1Description: https://datasheet.ciiva.com/6904/3020-34-0300-00-6904731.pdf; Supplier Part Number 1: 1175-1621-ND
footprint HDR_2X5_2R54_V_M_SMT
pins: 1, 2, 3, 4, 5, 6, 7, 8, 9, 10

## CONN_USB_MICRO-B_RA_SMD_MOLEX_105017-0001
designator J?  Orientation: Right Angle  Manufacturer Part Number: 105017-0001  Connector Type: USB, Receptacle, Micro-B  (hidden comment: *)
USB - micro B  Receptacle Connector 5 Position Board Cutout, Surface Mount, Right Angle; Manufacturer: Molex; Max Voltage Rating (AC): 30V; Current Rating: 1.8A; Number of Circuits: 5; USB Standard: USB 2.0; Number of Ports: 1; Pitch: 0.65mm; Supplier 1: Digi-Key; Stock 1: 42814; Pricing 1: 1=0.87, 10=0.763, 25=0.718, 50=0.6882, 100=0.6582, 250=0.5984, 500=0.53856, 1000=0.47872 (USD); Mount: Surface Mount; Contact Plating: Nickel,Gold; Contact Material: Copper,Copper Alloy; Number of Terminals: 5; Housing Material: Polymer; Min Operating Temperature: -20°C; Max Operating Temperature: 85°C; Packaging: Tape and Reel; Gender: Receptacle; Package Quantity: 1; Voltage Rating (AC): 30V; Termination: Solder; Number of Contacts: 5; Voltage Rating: 30V; Number of Positions: 5; Length: 8.2mm; Depth: 7.5mm; Radiation Hardening: No; REACH SVHC: Unknown; Halogen Free: Low Halogen; ComponentLink1URL: https://datasheet.ciiva.com/3094/1050170001-io-connectors-3094416.pdf; ComponentLink1Description: https://datasheet.ciiva.com/3094/1050170001-io-connectors-3094416.pdf; ComponentLink2URL: https://datasheet.ciiva.com/16668/1050170001-io-connectors-16668598.pdf; ComponentLink2Description: https://datasheet.ciiva.com/16668/1050170001-io-connectors-16668598.pdf; ComponentLink3URL: https://datasheet.ciiva.com/4598/1050170001-io-connectors-152207-4598759.pdf; ComponentLink3Description: https://datasheet.ciiva.com/4598/1050170001-io-connectors-152207-4598759.pdf; ComponentLink4URL: https://datasheet.ciiva.com/8015/1631959-8015288.pdf; ComponentLink4Description: https://datasheet.ciiva.com/8015/1631959-8015288.pdf; ComponentLink5URL: https://datasheet.ciiva.com/851/1050170001-sd-851276.pdf; ComponentLink5Description: https://datasheet.ciiva.com/851/1050170001-sd-851276.pdf; ComponentLink6URL: https://datasheet.ciiva.com/5742/1598502-5742508.pdf; ComponentLink6Description: https://datasheet.ciiva.com/5742/1598502-5742508.pdf; ComponentLink7URL: https://datasheet.ciiva.com/22654/1688140-22654924.pdf; ComponentLink7Description: https://datasheet.ciiva.com/22654/1688140-22654924.pdf; ComponentLink8URL: https://datasheet.ciiva.com/851/1050170001-sd-851277.pdf; ComponentLink8Description: https://datasheet.ciiva.com/851/1050170001-sd-851277.pdf; ComponentLink9URL: https://datasheet.ciiva.com/851/1050170001-sd-851278.pdf; ComponentLink9Description: https://datasheet.ciiva.com/851/1050170001-sd-851278.pdf; ComponentLink10URL: https://datasheet.ciiva.com/30165/235271050170001-io-nectors-30165183.pdf; ComponentLink10Description: https://datasheet.ciiva.com/30165/235271050170001-io-nectors-30165183.pdf; Supplier Part Number 1: WM1399DKR-ND
footprint CONN_MOLEX_USB_MICRO_B_SMD_RA_1050170001 (USB Micro-B Connector)
pins: 1 VCC, 2 D-, 3 D+, 4 ID, 5 GND, 6 MECH, 7 MECH, 8 MECH, 9 MECH, 10 MECH, 11 MECH

## DCDC_TI_BUCK_REG_5V_3A_40VIN_D2PAK_LM2576SX-5.0/NOPB
designator U?  Manufacturer Part Number: LM2576SX-5.0/NOPB  Output Voltage: 5V  Max Output Current: 3A
Conv DC-DC Single Non-Inv/Inv/Step Up/Step Down 4V to 40V 6-Pin(5+Tab) TO-263 T/R; Manufacturer: TI National Semiconductor; Number of Outputs: 1; Efficiency: 77%; Switching Frequency: 58kHz; Synchronous Rectifier: No; Quiescent Current: 5mA; Supplier 1: Digi-Key; Stock 1: 24779; Pricing 1: 1=2.86, 10=2.567, 100=2.1029 (USD); Mount: Surface Mount; Case/Package: TO-263; Number of Pins: 5; Contact Plating: Tin; Min Operating Temperature: -40°C; Max Operating Temperature: 125°C; Nominal Output Voltage: 5V; Packaging: Tape and Reel; Output Current: 3A; Min Input Voltage: 4V; Max Input Voltage: 40V; Package Quantity: 500; Operating Supply Voltage: 40V; Radiation Hardening: No; REACH SVHC: No SVHC; Lead Free: Contains Lead; ComponentLink1URL: https://datasheet.ciiva.com/3219/lm2576-3219929.pdf; ComponentLink1Description: https://datasheet.ciiva.com/3219/lm2576-3219929.pdf; ComponentLink2URL: https://datasheet.ciiva.com/15112/getdatasheetpartid-91773-15112843.pdf; ComponentLink2Description: https://datasheet.ciiva.com/15112/getdatasheetpartid-91773-15112843.pdf; ComponentLink3URL: https://datasheet.ciiva.com/41457/001013741-da-01-en-ic-reg-bu-lm2576sx-5-0-nopb-to-263-5-tid-41457614.pdf; ComponentLink3Description: https://datasheet.ciiva.com/41457/001013741-da-01-en-ic-reg-bu-lm2576sx-5-0-nopb-to-263-5-tid-41457614.pdf; Supplier Part Number 1: LM2576SX-5.0/NOPBDKR-ND
footprint D2PAK_TO-263-6 (DPAK, 5-Leads, Body 10.16x8.925mm, Pitch 1.7mm, IPC High Density)
pins: 1 VIN, 2 OUTPUT, 3 GND, 4 FB, 5 nON/OFF, 6 GND (PAD)

## DIODE_SCHOTTKY_40V_3A_SMC_DIO_B340-13-F
designator D?  Manufacturer Part Number: B340-13-F  Case/Package: SMC  Max Reverse Voltage (DC): 40V  Current: 3A  (hidden comment: *)
DIODE SCHOTTKY 40V 3A SMC; Manufacturer: Diodes; Peak Reverse Current: 500uA; Forward Voltage: 500mV; Max Forward Surge Current (Ifsm): 100A; Element Configuration: Single; Polarity: Standard; Capacitance: 250pF; Supplier 1: Digi-Key; Stock 1: 14507; Pricing 1: 1=0.39, 10=0.32, 100=0.2175, 500=0.16316, 1000=0.12236 (USD); Mount: Surface Mount; Number of Pins: 2; Weight: 0.007408oz; Min Operating Temperature: -55°C; Max Operating Temperature: 125°C; Package Quantity: 3000; Packaging: Tape and Reel; Forward Current: 3A; Average Rectified Current: 3A; Max Repetitive Reverse Voltage (Vrrm): 40V; Peak Non-Repetitive Surge Current: 100A; Termination: SMD/SMT; Voltage Rating (DC): 40V; Current Rating: 3A; Output Current: 3A; Voltage: 40V; Length: 7.11mm; Height: 2.5mm; Width: 6.22mm; Radiation Hardening: No; REACH SVHC: No SVHC; Lead Free: Lead Free; ComponentLink1URL: https://datasheet.ciiva.com/914/ds30923-914112.pdf; ComponentLink1Description: https://datasheet.ciiva.com/914/ds30923-914112.pdf; ComponentLink2URL: https://datasheet.ciiva.com/16291/ds13005-16291142.pdf; ComponentLink2Description: https://datasheet.ciiva.com/16291/ds13005-16291142.pdf; ComponentLink3URL: https://datasheet.ciiva.com/26949/getdatasheetpartid-116064-26949351.pdf; ComponentLink3Description: https://datasheet.ciiva.com/26949/getdatasheetpartid-116064-26949351.pdf; Supplier Part Number 1: B340-FDIDKR-ND
footprint DIODE_SMC (Molded Diode, 2-Leads, Body 7.10x6.20mm, IPC Medium Density)
pins: 1 A, 2 K

## EEPROM_I2C_2KB_MAC_24AA02E64T-I/OT
designator U?, comment Manufacturer Part Number: 24AA02E64T-I/OT  (hidden comment: IC EEPROM 2K I2C 400KHZ SOT23-5)
IC EEPROM 2KBIT 400KHZ SOT23-5; Manufacturer: Microchip; Density: 2Kb; Nominal Supply Current: 3mA; Min Supply Voltage: 1.7V; Max Supply Voltage: 5.5V; Interface: I2C,Serial,2-Wire; Access Time: 3500ns; Number of Words: 128; Supplier 1: Digi-Key; Stock 1: 16996; Pricing 1: 1=0.23, 25=0.2164, 100=0.2119 (USD); Case/Package: SOT-23; Number of Pins: 5; Contact Plating: Tin,Matte; Min Operating Temperature: -40°C; Max Operating Temperature: 85°C; Frequency: 400kHz; Package Quantity: 3000; Packaging: Tape and Reel; Memory Type: EEPROM; Memory Size: 2Kb; Max Frequency: 400kHz; Length: 3.1mm; Height: 1.3mm; Width: 1.8mm; Radiation Hardening: No; REACH SVHC: No SVHC; Lead Free: Lead Free; ComponentLink1URL: https://datasheet.ciiva.com/24021/20002124e-24021936.pdf; ComponentLink1Description: https://datasheet.ciiva.com/24021/20002124e-24021936.pdf; ComponentLink2URL: https://datasheet.ciiva.com/24009/20002124e-24009098.pdf; ComponentLink2Description: https://datasheet.ciiva.com/24009/20002124e-24009098.pdf; ComponentLink3URL: https://datasheet.ciiva.com/30478/0900766b8127facf-30478074.pdf; ComponentLink3Description: https://datasheet.ciiva.com/30478/0900766b8127facf-30478074.pdf; ComponentLink4URL: https://datasheet.ciiva.com/22692/1725195-22692205.pdf; ComponentLink4Description: https://datasheet.ciiva.com/22692/1725195-22692205.pdf; Supplier Part Number 1: 24AA02E64T-I/OTDKR-ND
footprint SOT-23-5L (Enhanced single channel power switches)
pins: 1 SCL, 2 VSS, 3 SDA, 4 VCC, 5 N/C

## FUSE_BELFUSE_PTC_30V_500MA_1812_0ZCG0050AF2C
designator F?  Manufacturer Part Number: 0ZCG0050AF2C  (hidden comment: *)
PTC RESETTABLE 30V 500MA 1812; Manufacturer: Bel; Max Current Rating: 100A; Trip Current: 1A; Time to Trip: 0.15s; Supplier 1: Digi-Key; Stock 1: 278574; Pricing 1: 1=0.14, 5=0.134, 10=0.129, 50=0.1148, 100=0.1069, 250=0.09504, 500=0.0792, 1000=0.07524 (USD); Mount: Surface Mount; Case/Package: 1812; Case Code (Metric): 4532; Case Code (Imperial): 1812; Contact Plating: Tin,Matte; Min Operating Temperature: -40°C; Max Operating Temperature: 85°C; Package Quantity: 1; Packaging: Tape and Reel; Hold Current: 500mA; Lead Free: Lead Free; ComponentLink1URL: https://datasheet.ciiva.com/18550/0zcg-18550748.pdf; ComponentLink1Description: https://datasheet.ciiva.com/18550/0zcg-18550748.pdf; ComponentLink2URL: https://datasheet.ciiva.com/18550/0zcg-18550749.pdf; ComponentLink2Description: https://datasheet.ciiva.com/18550/0zcg-18550749.pdf; ComponentLink3URL: https://datasheet.ciiva.com/18550/0zcg-18550750.pdf; ComponentLink3Description: https://datasheet.ciiva.com/18550/0zcg-18550750.pdf; Supplier Part Number 1: 507-1762-6-ND
footprint FUSE_1812 (Chip Resistor, 2-Leads, Body 4.55x3.24mm, IPC Medium Density)
pins: 1, 2

## FUSE_BELFUSE_PTC_33V_1A5_2920_0ZCF0150FF2C
designator F?  Trip Current: I_trip=3A  Time to Trip: T_trip=2s  Manufacturer Part Number: 0ZCF0150FF2C  (hidden comment: *)
PTC RESTTBLE 33V 1.50A CHIP 2920; Manufacturer: Bel; Max Current Rating: 40A; Hold Current: 1.5A; Supplier 1: Digi-Key; Stock 1: 39857; Pricing 1: 1=0.28, 5=0.27, 10=0.257, 50=0.2296, 100=0.2138, 250=0.19008, 500=0.1584, 1000=0.15048 (USD); Case Code (Metric): 7351; Case Code (Imperial): 2920; Package Quantity: 1; Packaging: Tape and Reel; ComponentLink1URL: https://datasheet.ciiva.com/18550/0zcf-18550649.pdf; ComponentLink1Description: https://datasheet.ciiva.com/18550/0zcf-18550649.pdf; ComponentLink2URL: https://datasheet.ciiva.com/18550/0zcf-18550650.pdf; ComponentLink2Description: https://datasheet.ciiva.com/18550/0zcf-18550650.pdf; ComponentLink3URL: https://datasheet.ciiva.com/18550/0zcf-18550651.pdf; ComponentLink3Description: https://datasheet.ciiva.com/18550/0zcf-18550651.pdf; Supplier Part Number 1: 507-1746-6-ND
footprint FUSE_2920
pins: 1, 2

## IC_INTERFACE_ETHERNET_PHY_LAN8742A-CZ-TR
designator U?, comment Data Rate: 100Mbps  (hidden comment: LAN8742A-CZ-TR)
LAN8742A-CZ-TR - Small Footprint RMII 10/100 Ethernet, Transceiver with HP Auto-MDIX and flexPWR Technology SQFN-24; Manufacturer: Microchip; Max Supply Voltage: 3.3V; Min Supply Voltage: 1.8V; Number of Transceivers: 1; Supplier 1: Digi-Key; Stock 1: 3390; Pricing 1: 1=1.24, 25=1.03 (USD); Mount: Surface Mount; Case/Package: QFN; Number of Pins: 24; Min Operating Temperature: 0°C; Max Operating Temperature: 85°C; Package Quantity: 5000; Packaging: Tape and Reel; Radiation Hardening: No; ComponentLink1URL: https://datasheet.ciiva.com/29882/8742a-29882620.pdf; ComponentLink1Description: https://datasheet.ciiva.com/29882/8742a-29882620.pdf; Supplier Part Number 1: LAN8742A-CZ-CT-ND; Manufacturer Part Number: LAN8742A-CZ-TR
footprint QFN24_B4X4_P0MM5_EP (SQFN 24 Pins, Pitch 0.5mm, 4mmx4mm)
pins: 1 VDD2A, 2 LED2/nINT/nPME/nINTSEL, 3 LED1/nINT/nPME/REGOFF, 4 XTAL2, 5 XTAL1/CLKIN, 6 VDDCR, 7 RXD1/MODE1, 8 RXD0/MODE0, 9 VDDIO, 10 RXER/PHYAD0, 11 CRS_DV/MODE2, 12 MDIO, 13 MDC, 14 nINT/REFCLK0, 15 nRST, 16 TXEN, 17 TXD0, 18 TXD1, 19 VDD1A, 20 TXN, 21 TXP, 22 RXN, 23 RXP, 24 RBIAS, 25 GND_EP

## IC_PMIC_TI_DRV8825PWPR
designator U?  Nominal Supply Current: 2.5A  Manufacturer Part Number: DRV8825PWPR  (hidden comment: *)
IC MOTOR DRIVER PAR 28HTSSOP; Manufacturer: Texas Instruments; Max Supply Voltage: 45V; Min Supply Voltage: 8V; Logic Function: AND; Supplier 1: Digi-Key; Stock 1: 66105; Pricing 1: 1=3.84, 10=3.452, 100=2.828, 500=2.4074, 1000=2.03034 (USD); Mount: Surface Mount; Case/Package: HTSSOP EP; Number of Pins: 28; Min Operating Temperature: -40°C; Max Operating Temperature: 85°C; Type: Integrated Circuit (IC); Output Current: 2.5A; Packaging: Tape and Reel; Package Quantity: 1; Radiation Hardening: No; Lead Free: Lead Free; ComponentLink1URL: https://datasheet.ciiva.com/26086/drv8825-26086085.pdf; ComponentLink1Description: https://datasheet.ciiva.com/26086/drv8825-26086085.pdf; ComponentLink2URL: https://datasheet.ciiva.com/3229/drv8825-3229031.pdf; ComponentLink2Description: https://datasheet.ciiva.com/3229/drv8825-3229031.pdf; ComponentLink3URL: https://datasheet.ciiva.com/26810/getdatasheetpartid-625248-26810663.pdf; ComponentLink3Description: https://datasheet.ciiva.com/26810/getdatasheetpartid-625248-26810663.pdf; ComponentLink4URL: https://datasheet.ciiva.com/1959/drv8825-1959819.pdf; ComponentLink4Description: https://datasheet.ciiva.com/1959/drv8825-1959819.pdf; ComponentLink5URL: https://datasheet.ciiva.com/1959/drv8825-1959820.pdf; ComponentLink5Description: https://datasheet.ciiva.com/1959/drv8825-1959820.pdf; ComponentLink6URL: https://datasheet.ciiva.com/1959/drv8825-1959821.pdf; ComponentLink6Description: https://datasheet.ciiva.com/1959/drv8825-1959821.pdf; Supplier Part Number 1: 296-29503-6-ND
footprint IC_TSSOP28_0MM65_EP52X31
pins: 1 CP1, 2 CP2, 3 VCP, 4 VMA, 5 AOUT1, 6 ISENA, 7 AOUT2, 8 BOUT2, 9 ISENB, 10 BOUT1, 11 VMB, 12 AVREF, 13 BVREF, 14 GND, 15 V3P3OUT, 16 nRESET, 17 nSLEEP, 18 nFAULT, 19 DECAY, 20 DIR, 21 nENBL, 22 STEP, 23 NC, 24 MODE0, 25 MODE1, 26 MODE2, 27 nHOME, 28 GND, 29 PAD (EP)

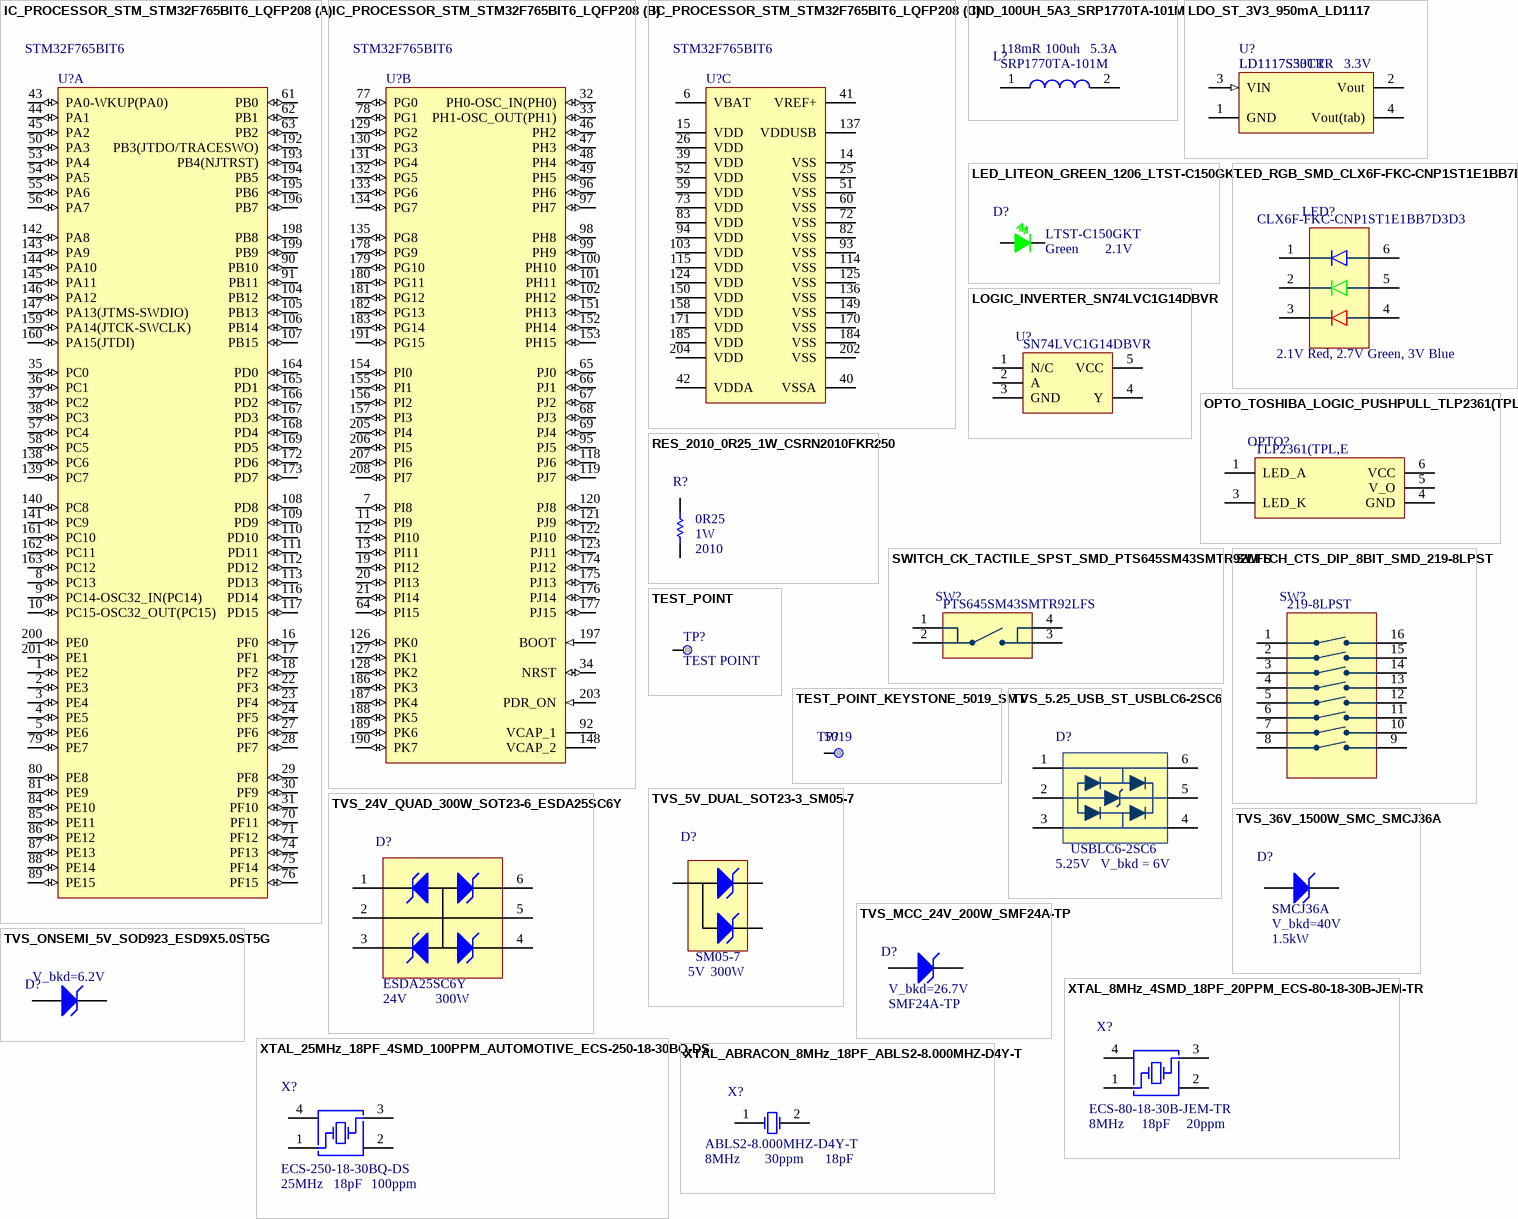
[diagram p1: symbols IC_PROCESSOR_STM_STM32F765BIT6_LQFP208 to XTAL_ABRACON_8MHz_18PF_ABLS2-8.000MHZ-D4Y-T]

## IC_PROCESSOR_STM_STM32F765BIT6_LQFP208
designator U?, comment STM32F765BIT6
IC MCU 32BIT 2MB FLASH 208LQFP; Manufacturer: STMicroelectronics; ComponentLink1Description: Manufacturer URL; ComponentLink1URL: http://www.st.com/web/en/home.html; ComponentLink2URL: http://www.st.com/st-web-ui/static/active/en/resource/technical/document/datasheet/DM00166116.pdf; ComponentLink3Description: Package Specification; ComponentLink3URL: http://www.st.com/st-web-ui/static/active/en/resource/technical/document/data_brief/DM00053488.pdf; ComponentLink2Description: Datasheet; Supplier 1: Digi-Key; Stock 1: 513; Pricing 1: 1=16.49, 10=15.151, 100=12.7955, 500=11.3825 (USD); ComponentLink4URL: http://www.st.com/content/ccc/resource/technical/document/reference_manual/group0/96/8b/0d/ec/16/22/43/71/DM00224583/files/DM00224583.pdf/jcr:content/translations/en.DM00224583.pdf; ComponentLink4Description: http://www.st.com/content/ccc/resource/technical/document/reference_manual/group0/96/8b/0d/ec/16/22/43/71/DM00224583/files/DM00224583.pdf/jcr:content/translations/en.DM00224583.pdf; Supplier Part Number 1: 497-16623-ND; Manufacturer Part Number: STM32F765BIT6
footprint QFP208L_B28X28_P0MM5
part A pins: 1 PE2 (io), 2 PE3 (io), 3 PE4 (io), 4 PE5 (io), 5 PE6 (io), 8 PC13 (io), 9 PC14-OSC32_IN(PC14) (io), 10 PC15-OSC32_OUT(PC15) (io), 16 PF0 (io), 17 PF1 (io), 18 PF2 (io), 22 PF3 (io), 23 PF4 (io), 24 PF5 (io), 27 PF6 (io), 28 PF7 (io), 29 PF8 (io), 30 PF9 (io), 31 PF10 (io), 35 PC0 (io), 36 PC1 (io), 37 PC2 (io), 38 PC3 (io), 43 PA0-WKUP(PA0) (io), 44 PA1 (io), 45 PA2 (io), 50 PA3 (io), 53 PA4 (io), 54 PA5 (io), 55 PA6 (io), 56 PA7 (io), 57 PC4 (io), 58 PC5 (io), 61 PB0 (io), 62 PB1 (io), 63 PB2 (io), 70 PF11 (io), 71 PF12 (io), 74 PF13 (io), 75 PF14 (io), 76 PF15 (io), 79 PE7 (io), 80 PE8 (io), 81 PE9 (io), 84 PE10 (io), 85 PE11 (io), 86 PE12 (io), 87 PE13 (io), 88 PE14 (io), 89 PE15 (io), 90 PB10 (io), 91 PB11 (io), 104 PB12 (io), 105 PB13 (io), 106 PB14 (io), 107 PB15 (io), 108 PD8 (io), 109 PD9 (io), 110 PD10 (io), 111 PD11 (io), 112 PD12 (io), 113 PD13 (io), 116 PD14 (io), 117 PD15 (io), 138 PC6 (io), 139 PC7 (io), 140 PC8 (io), 141 PC9 (io), 142 PA8 (io), 143 PA9 (io), 144 PA10 (io), 145 PA11 (io), 146 PA12 (io), 147 PA13(JTMS-SWDIO) (io), 159 PA14(JTCK-SWCLK) (io), 160 PA15(JTDI) (io), 161 PC10 (io), 162 PC11 (io), 163 PC12 (io), 164 PD0 (io), 165 PD1 (io), 166 PD2 (io), 167 PD3 (io), 168 PD4 (io), 169 PD5 (io), 172 PD6 (io), 173 PD7 (io), 192 PB3(JTDO/TRACESWO) (io), 193 PB4(NJTRST) (io), 194 PB5 (io), 195 PB6 (io), 196 PB7 (io), 198 PB8 (io), 199 PB9 (io), 200 PE0 (io), 201 PE1 (io)
part B pins: 7 PI8 (io), 11 PI9 (io), 12 PI10 (io), 13 PI11 (io), 19 PI12 (io), 20 PI13 (io), 21 PI14 (io), 32 PH0-OSC_IN(PH0) (io), 33 PH1-OSC_OUT(PH1) (io), 34 NRST (io), 46 PH2 (io), 47 PH3 (io), 48 PH4 (io), 49 PH5 (io), 64 PI15 (io), 65 PJ0 (io), 66 PJ1 (io), 67 PJ2 (io), 68 PJ3 (io), 69 PJ4 (io), 77 PG0 (io), 78 PG1 (io), 92 VCAP_1 (power), 95 PJ5 (io), 96 PH6 (io), 97 PH7 (io), 98 PH8 (io), 99 PH9 (io), 100 PH10 (io), 101 PH11 (io), 102 PH12 (io), 118 PJ6 (io), 119 PJ7 (io), 120 PJ8 (io), 121 PJ9 (io), 122 PJ10 (io), 123 PJ11 (io), 126 PK0 (io), 127 PK1 (io), 128 PK2 (io), 129 PG2 (io), 130 PG3 (io), 131 PG4 (io), 132 PG5 (io), 133 PG6 (io), 134 PG7 (io), 135 PG8 (io), 148 VCAP_2 (power), 151 PH13 (io), 152 PH14 (io), 153 PH15 (io), 154 PI0 (io), 155 PI1 (io), 156 PI2 (io), 157 PI3 (io), 174 PJ12 (io), 175 PJ13 (io), 176 PJ14 (io), 177 PJ15 (io), 178 PG9 (io), 179 PG10 (io), 180 PG11 (io), 181 PG12 (io), 182 PG13 (io), 183 PG14 (io), 186 PK3 (io), 187 PK4 (io), 188 PK5 (io), 189 PK6 (io), 190 PK7 (io), 191 PG15 (io), 197 BOOT (in), 203 PDR_ON (in), 205 PI4 (io), 206 PI5 (io), 207 PI6 (io), 208 PI7 (io)
part C pins: 6 VBAT (power), 14 VSS (power), 15 VDD (power), 25 VSS (power), 26 VDD (power), 39 VDD (power), 40 VSSA (power), 41 VREF+ (power), 42 VDDA (power), 51 VSS (power), 52 VDD (power), 59 VDD (power), 60 VSS (power), 72 VSS (power), 73 VDD (power), 82 VSS (power), 83 VDD (power), 93 VSS (power), 94 VDD (power), 103 VDD (power), 114 VSS (power), 115 VDD (power), 124 VDD (power), 125 VSS (power), 136 VSS (power), 137 VDDUSB (power), 149 VSS (power), 150 VDD (power), 158 VDD (power), 170 VSS (power), 171 VDD (power), 184 VSS (power), 185 VDD (power), 202 VSS (power), 204 VDD (power)

## IND_100UH_5A3_SRP1770TA-101M
designator L?  Inductance: 100uh  DC Resistance (DCR): 118mR  Manufacturer Part Number: SRP1770TA-101M  Current Rating: 5.3A  (hidden comment: *)
Surface Mount Power Inductor, SRP1770TA Series, 100UH, 5.3 A, 12 A, Shielded, 0.118 ohm; Manufacturer: Bourns; Core Material: Carbonyl Powder; Saturation Current: 6.5A; Self Resonant Frequency: 2MHz; Test Frequency: 100kHz; Tolerance: 20%; Supplier 1: Digi-Key; Stock 1: 2886; Pricing 1: 1=3.88, 10=3.558, 100=2.3288 (USD); Mount: Surface Mount; Case/Package: Nonstandard; Min Operating Temperature: -40°C; Max Operating Temperature: 150°C; Packaging: Cut Tape; Composition: Wirewound; Shielding: Shielded; RMS Current (Irms): 5.3A; Inductance Tolerance: 20%; Length: 0.666inch; Width: 0.666inch; Height - Seated (Max): 0.276inch; REACH SVHC: No SVHC; ComponentLink1URL: http://www.farnell.com/datasheets/1955470.pdf; ComponentLink1Description: http://www.farnell.com/datasheets/1955470.pdf; ComponentLink2URL: http://www.bourns.com/docs/Product-Datasheets/SRP1770TA.pdf; ComponentLink2Description: http://www.bourns.com/docs/Product-Datasheets/SRP1770TA.pdf; Supplier Part Number 1: SRP1770TA-101MDKR-ND
footprint IND_17MM_SMT
pins: 1, 2

## LDO_ST_3V3_950mA_LD1117
designator U?, comment LD1117S50TR  Manufacturer Part Number: LD1117S33CTR  Max Output Voltage: 3.3V
Fixed LDO Voltage Regulator, 5.3V to 15V, 1.1V Dropout, 3.3Vout, 950mAout, SOT-223-4; Manufacturer: STMicroelectronics; Number of Outputs: 1; Output Current: 950mA; Max Output Current: 1.3A; Max Power Dissipation: 12W; Input Bias Current: 5mA; Polarity: Positive; Quiescent Current: 10mA; Accuracy: 1%; Supplier 1: Digi-Key; Stock 1: 0; Pricing 1: 1=0.42, 10=0.361, 100=0.2697, 500=0.21188, 1000=0.16373 (USD); Mount: Surface Mount; Case/Package: SOT-223; Number of Pins: 4; Weight: 0.01lb; Number of Terminals: 4; Contact Plating: Tin,Matte; Min Operating Temperature: -40°C; Max Operating Temperature: 125°C; Output Voltage: 3.3V; Packaging: Tape and Reel; Min Input Voltage: 5.3V; Dropout Voltage: 1.1V; Nominal Output Voltage: 3.3V; Max Input Voltage: 15V; Package Quantity: 1; Max Supply Voltage: 15V; Min Supply Voltage: 3.3V; Number of Regulators: 1; Min Output Voltage: 3.3V; Power Dissipation: 12W; Termination: SMD/SMT; Output Voltage Accuracy: 1%; Length: 6.5mm; Height: 1.8mm; Width: 3.5mm; Radiation Hardening: No; REACH SVHC: No SVHC; Lead Free: Lead Free; ComponentLink1URL: https://datasheet.ciiva.com/1511/1776449-1511572.pdf; ComponentLink1Description: https://datasheet.ciiva.com/1511/1776449-1511572.pdf; ComponentLink2URL: https://datasheet.ciiva.com/16392/cd00000544-16392069.pdf; ComponentLink2Description: https://datasheet.ciiva.com/16392/cd00000544-16392069.pdf; ComponentLink3URL: https://datasheet.ciiva.com/19480/1390223-19480586.pdf; ComponentLink3Description: https://datasheet.ciiva.com/19480/1390223-19480586.pdf; ComponentLink4URL: https://datasheet.ciiva.com/2041/cd00000544-2041932.pdf; ComponentLink4Description: https://datasheet.ciiva.com/2041/cd00000544-2041932.pdf; ComponentLink5URL: https://datasheet.ciiva.com/7992/1776449-7992620.pdf; ComponentLink5Description: https://datasheet.ciiva.com/7992/1776449-7992620.pdf; ComponentLink6URL: https://datasheet.ciiva.com/2041/cd00000544-2041933.pdf; ComponentLink6Description: https://datasheet.ciiva.com/2041/cd00000544-2041933.pdf; ComponentLink7URL: https://datasheet.ciiva.com/2041/cd00000544-2041934.pdf; ComponentLink7Description: https://datasheet.ciiva.com/2041/cd00000544-2041934.pdf; Supplier Part Number 1: 497-1241-6-ND
footprint SOT-223 (Adjustable and fixed low drop positive voltage regulator)
pins: 1 GND, 2 Vout (power), 3 VIN (in), 4 Vout(tab) (power)